# Altium footprint library led.PcbLib: 1 footprints
Each footprint in its own frame and in the unit in brackets; x right, y up, seen from the top. Pads: shape width x height; smd on the part's side, far side on the other; paste and mask are expansions set on the pad; w line width, h text height; cw(c..) or ccw(c..) is an arc to the next point about the centre after c.
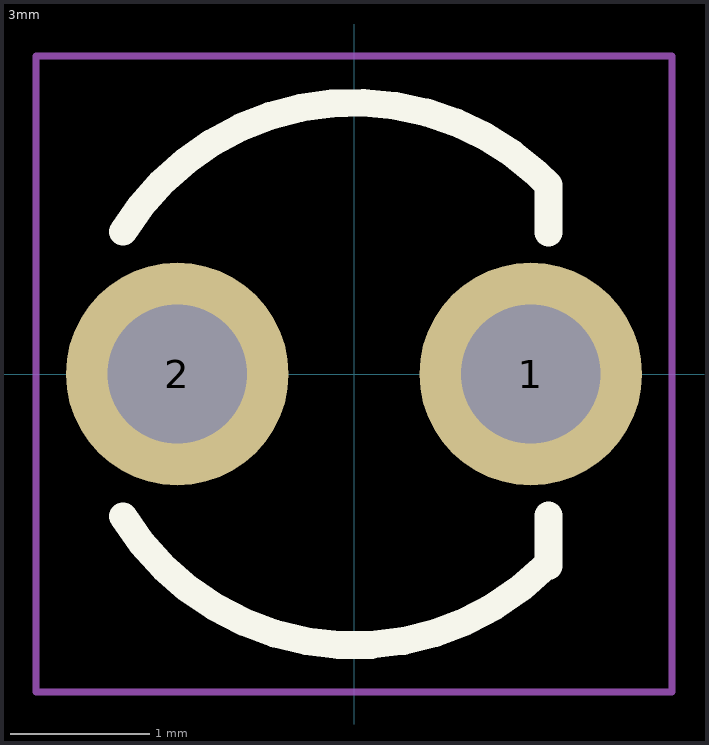
[diagram p0: the footprint, top view; thin cyan lines are the x and y axes]

## 3mm [mm] "THT, LED-3mm, 2pin- Body 4.15mm(max)"
height 10.9
pads (2):
  round 1.6 hole 1: 1(1.27,0) 2(-1.27,0)
Top Overlay:
  lines w0.2: -1.661,-1.022 ccw(c0,0) 1.379,-1.379 ; -1.661,1.022 cw(c0,0) 1.312,1.443 1.397,1.358 1.397,1.016 ; 1.397,-1.379 1.397,-1.016
Mechanical 15:
  lines w0.05: -2.286,-2.286 2.286,-2.286 2.286,2.286 -2.286,2.286 -2.286,-2.286
  text ".Designator" at 3.175,-3.683 h0.76
3D body "WL-TMRW_3mm.stp": height 10.5, standoff -21.2, extent -1.934,-1.939 1.87,1.94